# Altium schematic symbol library LD1117STR.Schlib: 1 symbol
Pins are listed as number, name and electrical type; pins without a type are passive.

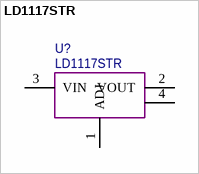
[diagram p0: symbol LD1117STR]

## LD1117STR
designator U?
Low-Dropout Positive Voltage Regulator
pins: 1 ADJ (power), 2 VOUT (power), 3 VIN (power), 4 VOUT (power)